# Altium integrated library MT9223-20BR5.IntLib: 1 symbol
Pins are listed as number, name and electrical type; pins without a type are passive.

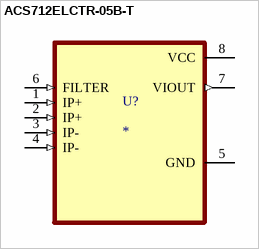
[diagram p0: symbol ACS712ELCTR-05B-T]

## ACS712ELCTR-05B-T
designator U?
MF: {'manufacturer': u'Allegro MicroSystems'}; MP: ACS712ELCTR-05B-T; Package: None; Price: None; Value: *; Availability: Unavailable
footprint SOIC127P600X175-8N
pins: 1 IP+ (in), 2 IP+ (in), 3 IP- (in), 4 IP- (in), 5 GND (power), 6 FILTER (in), 7 VIOUT (out), 8 VCC (power)